# Altium schematic symbol library SchLib_ols.SCHLIB: 87 symbols (part 1 of 2)
Pins are listed as number, name and electrical type; pins without a type are passive.

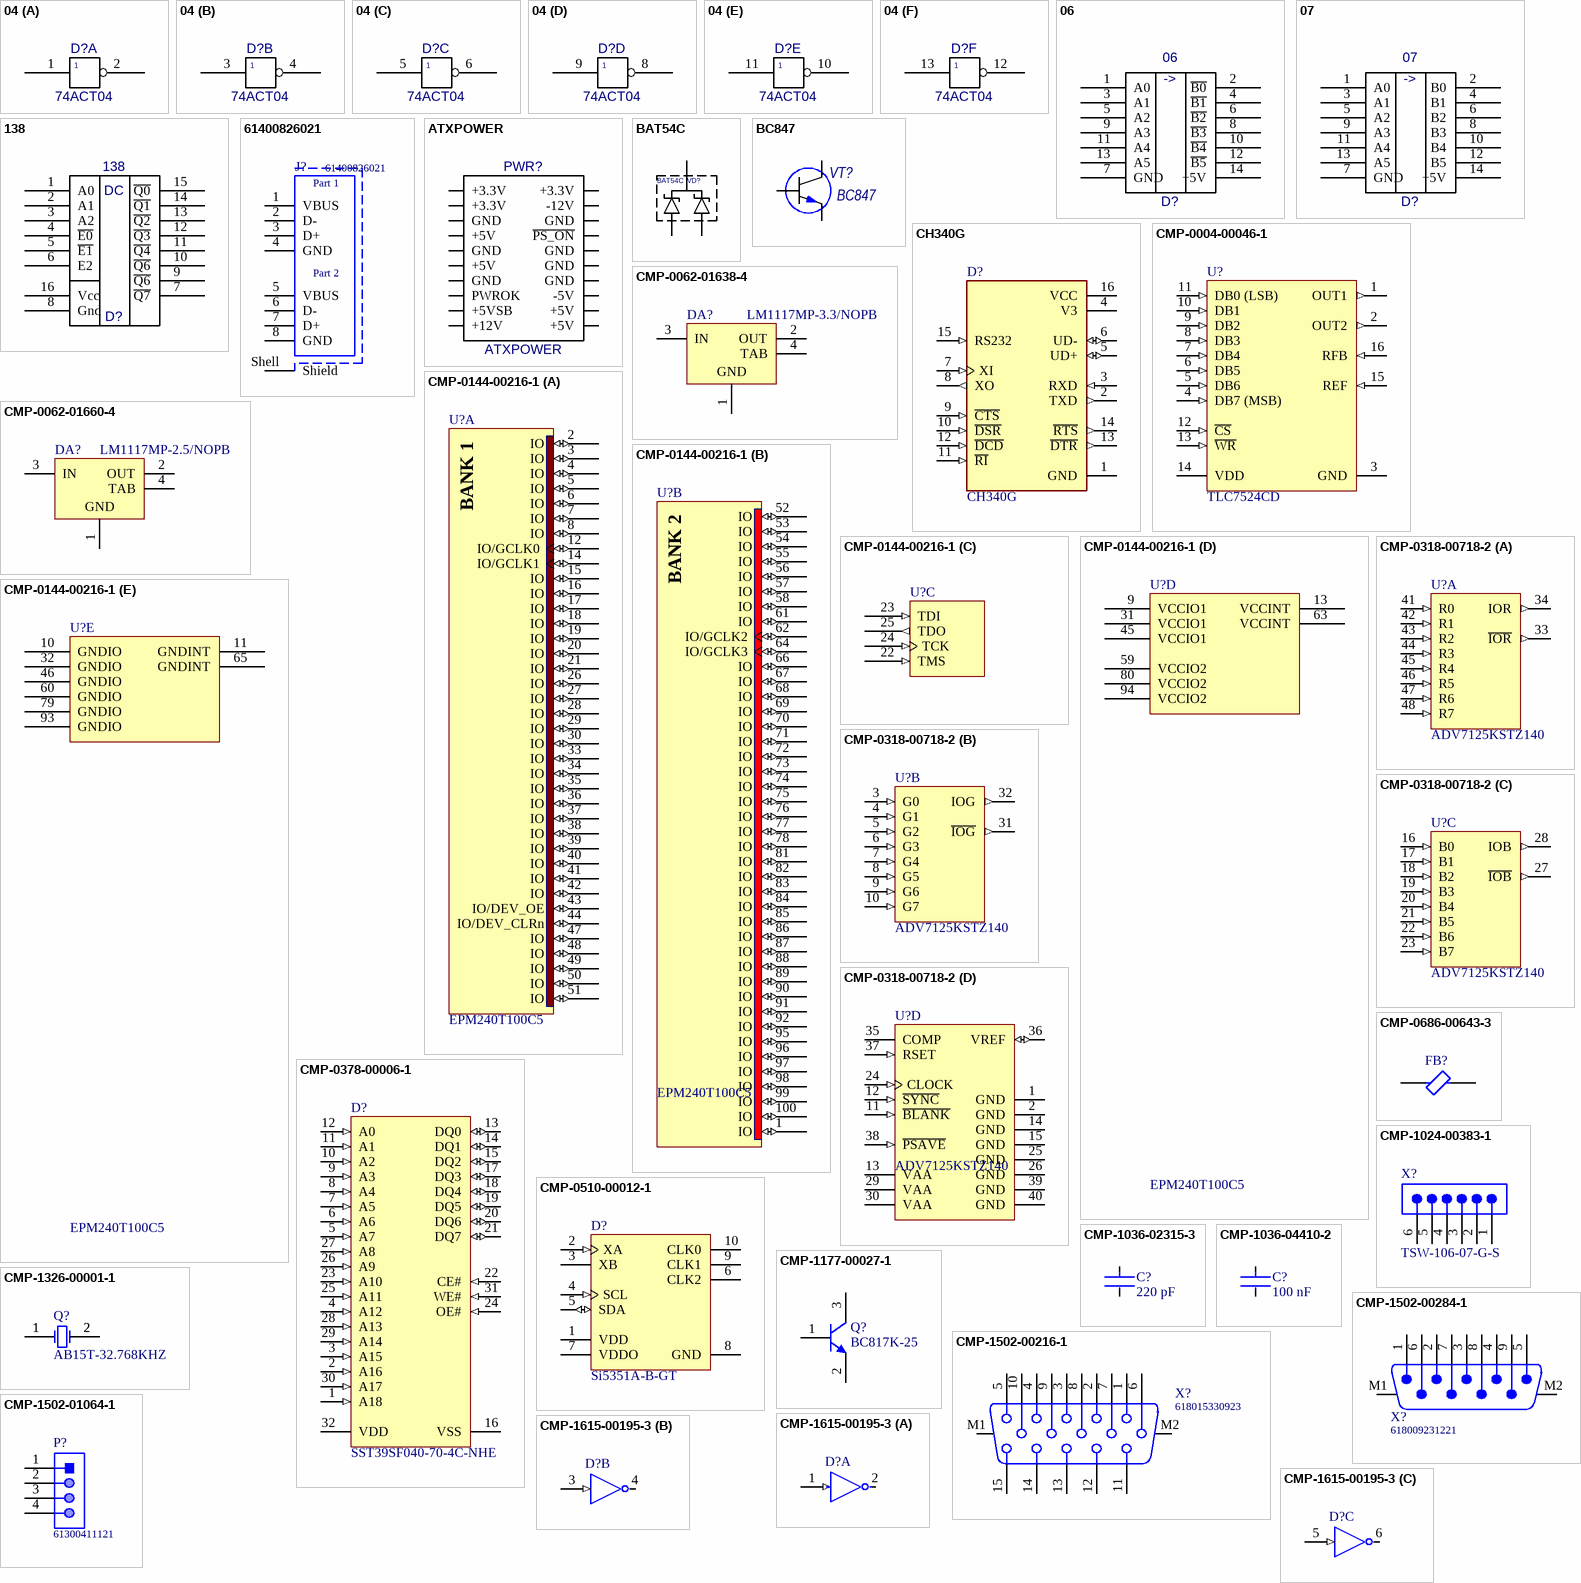
[diagram p0: symbols 04 to CMP-1615-00195-3]

## 04
designator D?  value 74ACT04  (hidden comment: 04)
Case/Package: SOIC-14; Category: IC
footprint SO14
pins on every part: 7 GND (power) hidden to GND, 14 +5v (power) hidden to VCC5
part A pins: 1, 2
part B pins: 3, 4
part C pins: 5, 6
part D pins: 8, 9
part E pins: 10, 11
part F pins: 12, 13

## 06
designator D?
Value: 74HCT06; Case/Package: SOIC-14; Category: IC
footprint SO14
pins: 1 A0, 2 ~{B0}, 3 A1, 4 ~{B1}, 5 A2, 6 ~{B2}, 7 GND, 8 ~{B3}, 9 A3, 10 ~{B4}, 11 A4, 12 ~{B5}, 13 A5, 14 +5V
text: ->

## 07
designator D?
Value: 74HCT07; Case/Package: SOIC-14; Category: IC
footprint SO14
pins: 1 A0, 2 B0, 3 A1, 4 B1, 5 A2, 6 B2, 7 GND, 8 B3, 9 A3, 10 B4, 11 A4, 12 B5, 13 A5, 14 +5V
text: ->

## 138
designator D?
value: 74HCT138; Case/Package: SOIC-16; Category: IC
footprint SO16
pins: 1 A0, 2 A1, 3 A2, 4 ~{E0}, 5 ~{E1}, 6 E2, 7 ~{Q7}, 8 Gnd, 9 ~{Q6}, 10 ~{Q6}, 11 ~{Q4}, 12 ~{Q3}, 13 ~{Q2}, 14 ~{Q1}, 15 ~{Q0}, 16 Vcc
text: DC

## 61400826021
designator J?
USB 2.0 Type A Receptacle WR-COM, Stacked Horizontal, THT; Manufacturer: Wurth Elektronik; Contact Resistance: 20mOhm; Rated Current: 1.5A; Working Voltage: 30VAC; Connector Type: USB2.0TypeA; Packaging: Tray; Package Reference: 61400826021; Mounting Technology: THT; Datasheet URL: https://katalog.we-online.de/em/datasheet/61400826021.pdf; Operating Temperature: -40to105degC; Gender: Receptacle; Orientation: StackedHorizontal; Part Number: 61400826021; Publisher: WurthElektronik; Manufacturer URL: http://www.we-online.de
footprint 61400826021 (USB 2.0 Type A Horizontal Dual Stacked)
pins: 1 VBUS, 2 D-, 3 D+, 4 GND, 5 VBUS, 6 D-, 7 D+, 8 GND, Shell Shield
text: Part 1; Part 2

## ATXPOWER
designator PWR?
Analogs: MF-20MA;N42GP-20; Value: ATXPOWER; Case/Package: Mini-Fit 20 PIN 5.2; Category: Connector
footprint ATXPOWER
pins: 1 +3.3V, 2 +3.3V, 3 GND, 4 +5V, 5 GND, 6 +5V, 7 GND, 8 PWROK, 9 +5VSB, 10 +12V, 11 +3.3V, 12 -12V, 13 GND, 14 ~{PS_ON}, 15 GND, 16 GND, 17 GND, 18 -5V, 19 +5V, 20 +5V

## BAT54C
designator VD?
Value: BAT54C; Case/Package: SOT-23; Category: Diode
footprint SOT-23
pins: 1, 2, 3

## BC847
designator VT?
Value: BC847; Case/Package: SOT-23; Category: Transistor
footprint SOT-23
pins: 1 base, 2 emitter, 3 collector

## CH340G
designator D?
USB Interface Integrated Circuit; Value: CH340G; Case/Package: SOIC-16; Category: IC
footprint SOIC127P600X180-16N
pins: 1 GND (power), 2 TXD (out), 3 RXD (in), 4 V3 (power), 5 UD+ (io), 6 UD- (io), 7 XI (in), 8 XO (out), 9 ~{CTS} (in), 10 ~{DSR} (in), 11 ~{RI} (in), 12 ~{DCD} (in), 13 ~{DTR} (out), 14 ~{RTS} (out), 15 RS232 (in), 16 VCC (power)

## CMP-0004-00046-1
designator U?, comment TLC7524CD
8-Bit, 0.1 us MDAC, Parallel Input, Fast Control Signalling for DSP, Easy Micro Interface, 0 to 70 degC, 16-pin SOIC (D16), Green (RoHS & no Sb/Br); Manufacturer: Texas Instruments; PackageDescription: 16-Pin Plastic Small Outline, Body 9.9 x 3.9 mm, Pitch 1.27 mm; PartNumber: TLC7524CD; Manufacturer Part Number: TLC7524CD; value: TLC7524CD; Case/Package: SOIC-16; Category: IC
footprint TI-D16_N (SOIC, 16-Leads, Body 9.9x3.9mm, Pitch 1.27mm, IPC Medium Density)
footprint TI-D16_L (SOIC, 16-Leads, Body 9.9x3.9mm, Pitch 1.27mm, IPC High Density)
footprint TI-D16_M (SOIC, 16-Leads, Body 9.9x3.9mm, Pitch 1.27mm, IPC Low Density)
pins: 1 OUT1 (out), 2 OUT2 (out), 3 GND (power), 4 DB7 (MSB) (in), 5 DB6 (in), 6 DB5 (in), 7 DB4 (in), 8 DB3 (in), 9 DB2 (in), 10 DB1 (in), 11 DB0 (LSB) (in), 12 ~{CS} (in), 13 ~{WR} (in), 14 VDD (power), 15 REF (in), 16 RFB (in)

## CMP-0062-01638-4
designator DA?, comment LM1117MP-3.3/NOPB
800mA Low-Dropout Linear Regulator, 4-pin SOT-223, Pb-Free; Manufacturer: TI National Semiconductor; PackageDescription: Molded SOT-223, 6.50 x 3.56 x 1.6mm Body, 4 Lead, 2.3mm Pitch; PartNumber: LM1117MP-3.3/NOPB; Manufacturer Part Number: LM1117MP-3.3/NOPB; value: LM1117MP-3.3/NOPB; Case/Package: SOT-223; Category: IC
footprint DCY0004A_L (SOT223, 4-Leads, Body 6.7x3.7mm, Pitch 2.3mm, IPC High Density)
footprint DCY0004A_M (SOT223, 4-Leads, Body 6.7x3.7mm, Pitch 2.3mm, IPC Low Density)
footprint DCY0004A_N (SOT223, 4-Leads, Body 6.7x3.7mm, Pitch 2.3mm, IPC Medium Density)
pins: 1 GND (power), 2 OUT (power), 3 IN (power), 4 TAB (power)

## CMP-0062-01660-4
designator DA?, comment LM1117MP-2.5/NOPB
800mA Low-Dropout Linear Regulator, 4-pin SOT-223, Pb-Free; Manufacturer: TI National Semiconductor; PartNumber: LM1117MP-2.5/NOPB; PackageDescription: Molded SOT-223, 6.50 x 3.56 x 1.6mm Body, 4 Lead, 2.3mm Pitch; Manufacturer Part Number: LM1117MP-2.5/NOPB; value: LM1117MP-2.5/NOPB; Case/Package: SOT-223; Category: IC
footprint DCY0004A_M (SOT223, 4-Leads, Body 6.7x3.7mm, Pitch 2.3mm, IPC Low Density)
footprint DCY0004A_N (SOT223, 4-Leads, Body 6.7x3.7mm, Pitch 2.3mm, IPC Medium Density)
footprint DCY0004A_L (SOT223, 4-Leads, Body 6.7x3.7mm, Pitch 2.3mm, IPC High Density)
pins: 1 GND (power), 2 OUT (power), 3 IN (power), 4 TAB (power)

## CMP-0144-00216-1
designator U?, comment EPM240T100C5
MAX II 3.3/2.5V CPLD, 80 IOs, 240 Logic Elements, 100-Pin Plastic TQFP, Commercial Temperature, Speed Grade 5; Manufacturer: Intel Altera; PackageDescription: 100-Pin Plastic Thin Quad Flat Pack (TQFP100) - Wire Bond; Manufacturer Part Number: EPM240T100C5; value: EPM240T100C5; Case/Package: TQFP-100; Category: IC
footprint TQFP100_M (Thin QFP, 100-Leads, Body 14x14mm, Pitch 0.5mm, IPC Low Density)
footprint TQFP100_L (Thin QFP, 100-Leads, Body 14x14mm, Pitch 0.5mm, IPC High Density)
footprint TQFP100_N (Thin QFP, 100-Leads, Body 14x14mm, Pitch 0.5mm, IPC Medium Density)
part A pins: 2 IO (io), 3 IO (io), 4 IO (io), 5 IO (io), 6 IO (io), 7 IO (io), 8 IO (io), 12 IO/GCLK0 (io), 14 IO/GCLK1 (io), 15 IO (io), 16 IO (io), 17 IO (io), 18 IO (io), 19 IO (io), 20 IO (io), 21 IO (io), 26 IO (io), 27 IO (io), 28 IO (io), 29 IO (io), 30 IO (io), 33 IO (io), 34 IO (io), 35 IO (io), 36 IO (io), 37 IO (io), 38 IO (io), 39 IO (io), 40 IO (io), 41 IO (io), 42 IO (io), 43 IO/DEV_OE (io), 44 IO/DEV_CLRn (io), 47 IO (io), 48 IO (io), 49 IO (io), 50 IO (io), 51 IO (io)
part B pins: 1 IO (io), 52 IO (io), 53 IO (io), 54 IO (io), 55 IO (io), 56 IO (io), 57 IO (io), 58 IO (io), 61 IO (io), 62 IO/GCLK2 (io), 64 IO/GCLK3 (io), 66 IO (io), 67 IO (io), 68 IO (io), 69 IO (io), 70 IO (io), 71 IO (io), 72 IO (io), 73 IO (io), 74 IO (io), 75 IO (io), 76 IO (io), 77 IO (io), 78 IO (io), 81 IO (io), 82 IO (io), 83 IO (io), 84 IO (io), 85 IO (io), 86 IO (io), 87 IO (io), 88 IO (io), 89 IO (io), 90 IO (io), 91 IO (io), 92 IO (io), 95 IO (io), 96 IO (io), 97 IO (io), 98 IO (io), 99 IO (io), 100 IO (io)
part C pins: 22 TMS (in), 23 TDI (in), 24 TCK (in), 25 TDO (out)
part D pins: 9 VCCIO1 (power), 13 VCCINT (power), 31 VCCIO1 (power), 45 VCCIO1 (power), 59 VCCIO2 (power), 63 VCCINT (power), 80 VCCIO2 (power), 94 VCCIO2 (power)
part E pins: 10 GNDIO (power), 11 GNDINT (power), 32 GNDIO (power), 46 GNDIO (power), 60 GNDIO (power), 65 GNDINT (power), 79 GNDIO (power), 93 GNDIO (power)
part A text: BANK 1
part B text: BANK 2

## CMP-0318-00718-2
designator U?, comment ADV7125KSTZ140
3 Channel 8-Bit CMOS High Speed Video Digital-to-Analog Converter, -40 to +85 degC, ST-48, Pb-Free, Tray; Manufacturer: Analog Devices; PackageDescription: 48-Pin Thin Quad Flat Pack 0.5 mm Pitch; PartNumber: ADV7125KSTZ140; Manufacturer Part Number: ADV7125KSTZ140; value: ADV7125KSTZ140; Case/Package: TQFP-48; Category: IC
footprint ST-48_N (Thin QFP, 48-Leads, Body 7x7mm, Pitch 0.5mm, IPC Medium Density)
footprint ST-48_L (Thin QFP, 48-Leads, Body 7x7mm, Pitch 0.5mm, IPC High Density)
footprint ST-48_M (Thin QFP, 48-Leads, Body 7x7mm, Pitch 0.5mm, IPC Low Density)
part A pins: 33 ~{IOR} (out) "Differential Red, Green, and Blue Current Outputs (High Impedance Current Sources). These RGB video outputs are specified to directly drive RS-343A and RS-170 video levels into a doubly terminated 75 ohm load. If the (See Datasheet)", 34 IOR (out) "Red, Green, and Blue Current Outputs. These high impedance current sources are capable of directly driving a doubly terminated 75 ohm coaxial cable. All three current outputs should have similar output loads whether or not (See Datasheet)", 41 R0 (in) "Red Pixel Data Inputs (TTL Compatible). Pixel data is latched on the rising edge of CLOCK. R0, G0, and B0 are the least significant data bits. Unused pixel data inputs should be connected to either the regular printed (See Datasheet)", 42 R1 (in) "Red Pixel Data Inputs (TTL Compatible). Pixel data is latched on the rising edge of CLOCK. R0, G0, and B0 are the least significant data bits. Unused pixel data inputs should be connected to either the regular printed (See Datasheet)", 43 R2 (in) "Red Pixel Data Inputs (TTL Compatible). Pixel data is latched on the rising edge of CLOCK. R0, G0, and B0 are the least significant data bits. Unused pixel data inputs should be connected to either the regular printed (See Datasheet)", 44 R3 (in) "Red Pixel Data Inputs (TTL Compatible). Pixel data is latched on the rising edge of CLOCK. R0, G0, and B0 are the least significant data bits. Unused pixel data inputs should be connected to either the regular printed (See Datasheet)", 45 R4 (in) "Red Pixel Data Inputs (TTL Compatible). Pixel data is latched on the rising edge of CLOCK. R0, G0, and B0 are the least significant data bits. Unused pixel data inputs should be connected to either the regular printed (See Datasheet)", 46 R5 (in) "Red Pixel Data Inputs (TTL Compatible). Pixel data is latched on the rising edge of CLOCK. R0, G0, and B0 are the least significant data bits. Unused pixel data inputs should be connected to either the regular printed (See Datasheet)", 47 R6 (in) "Red Pixel Data Inputs (TTL Compatible). Pixel data is latched on the rising edge of CLOCK. R0, G0, and B0 are the least significant data bits. Unused pixel data inputs should be connected to either the regular printed (See Datasheet)", 48 R7 (in) "Red Pixel Data Inputs (TTL Compatible). Pixel data is latched on the rising edge of CLOCK. R0, G0, and B0 are the least significant data bits. Unused pixel data inputs should be connected to either the regular printed (See Datasheet)"
part B pins: 3 G0 (in) "Green Pixel Data Inputs (TTL Compatible). Pixel data is latched on the rising edge of CLOCK. R0, G0, and B0 are the least significant data bits. Unused pixel data inputs should be connected to either the regular printed (See Datasheet)", 4 G1 (in) "Green Pixel Data Inputs (TTL Compatible). Pixel data is latched on the rising edge of CLOCK. R0, G0, and B0 are the least significant data bits. Unused pixel data inputs should be connected to either the regular printed (See Datasheet)", 5 G2 (in) "Green Pixel Data Inputs (TTL Compatible). Pixel data is latched on the rising edge of CLOCK. R0, G0, and B0 are the least significant data bits. Unused pixel data inputs should be connected to either the regular printed (See Datasheet)", 6 G3 (in) "Green Pixel Data Inputs (TTL Compatible). Pixel data is latched on the rising edge of CLOCK. R0, G0, and B0 are the least significant data bits. Unused pixel data inputs should be connected to either the regular printed (See Datasheet)", 7 G4 (in) "Green Pixel Data Inputs (TTL Compatible). Pixel data is latched on the rising edge of CLOCK. R0, G0, and B0 are the least significant data bits. Unused pixel data inputs should be connected to either the regular printed (See Datasheet)", 8 G5 (in) "Green Pixel Data Inputs (TTL Compatible). Pixel data is latched on the rising edge of CLOCK. R0, G0, and B0 are the least significant data bits. Unused pixel data inputs should be connected to either the regular printed (See Datasheet)", 9 G6 (in) "Green Pixel Data Inputs (TTL Compatible). Pixel data is latched on the rising edge of CLOCK. R0, G0, and B0 are the least significant data bits. Unused pixel data inputs should be connected to either the regular printed (See Datasheet)", 10 G7 (in) "Green Pixel Data Inputs (TTL Compatible). Pixel data is latched on the rising edge of CLOCK. R0, G0, and B0 are the least significant data bits. Unused pixel data inputs should be connected to either the regular printed (See Datasheet)", 31 ~{IOG} (out) "Differential Red, Green, and Blue Current Outputs (High Impedance Current Sources). These RGB video outputs are specified to directly drive RS-343A and RS-170 video levels into a doubly terminated 75 ohm load. If the (See Datasheet)", 32 IOG (out) "Red, Green, and Blue Current Outputs. These high impedance current sources are capable of directly driving a doubly terminated 75 ohm coaxial cable. All three current outputs should have similar output loads whether or not (See Datasheet)"
part C pins: 16 B0 (in) "Blue Pixel Data Inputs (TTL Compatible). Pixel data is latched on the rising edge of CLOCK. R0, G0, and B0 are the least significant data bits. Unused pixel data inputs should be connected to either the regular printed (See Datasheet)", 17 B1 (in) "Blue Pixel Data Inputs (TTL Compatible). Pixel data is latched on the rising edge of CLOCK. R0, G0, and B0 are the least significant data bits. Unused pixel data inputs should be connected to either the regular printed (See Datasheet)", 18 B2 (in) "Blue Pixel Data Inputs (TTL Compatible). Pixel data is latched on the rising edge of CLOCK. R0, G0, and B0 are the least significant data bits. Unused pixel data inputs should be connected to either the regular printed (See Datasheet)", 19 B3 (in) "Blue Pixel Data Inputs (TTL Compatible). Pixel data is latched on the rising edge of CLOCK. R0, G0, and B0 are the least significant data bits. Unused pixel data inputs should be connected to either the regular printed (See Datasheet)", 20 B4 (in) "Blue Pixel Data Inputs (TTL Compatible). Pixel data is latched on the rising edge of CLOCK. R0, G0, and B0 are the least significant data bits. Unused pixel data inputs should be connected to either the regular printed (See Datasheet)", 21 B5 (in) "Blue Pixel Data Inputs (TTL Compatible). Pixel data is latched on the rising edge of CLOCK. R0, G0, and B0 are the least significant data bits. Unused pixel data inputs should be connected to either the regular printed (See Datasheet)", 22 B6 (in) "Blue Pixel Data Inputs (TTL Compatible). Pixel data is latched on the rising edge of CLOCK. R0, G0, and B0 are the least significant data bits. Unused pixel data inputs should be connected to either the regular printed (See Datasheet)", 23 B7 (in) "Blue Pixel Data Inputs (TTL Compatible). Pixel data is latched on the rising edge of CLOCK. R0, G0, and B0 are the least significant data bits. Unused pixel data inputs should be connected to either the regular printed (See Datasheet)", 27 ~{IOB} (out) "Differential Red, Green, and Blue Current Outputs (High Impedance Current Sources). These RGB video outputs are specified to directly drive RS-343A and RS-170 video levels into a doubly terminated 75 ohm load. If the (See Datasheet)", 28 IOB (out) "Red, Green, and Blue Current Outputs. These high impedance current sources are capable of directly driving a doubly terminated 75 ohm coaxial cable. All three current outputs should have similar output loads whether or not (See Datasheet)"
part D pins: 1 GND (power) "Ground. All GND pins must be connected.", 2 GND (power) "Ground. All GND pins must be connected.", 11 ~{BLANK} (in) "Composite Blank Control Input (TTL Compatible). A Logic 0 on this control input drives the analog outputs, IOR, IOB, and IOG, to the blanking level. The B\L\A\N\K\ signal is latched on the rising edge of CLOCK. While (See Datasheet)", 12 ~{SYNC} (in) "Composite Sync Control Input (TTL Compatible). A Logic 0 on the S\Y\N\C\ input switches off a 40 IRE current source. This is internally connected to the IOG analog output. S\Y\N\C\ does not override any other control or data (See Datasheet)", 13 VAA (power) "Analog Power Supply (5 V +/- 5%). All VAA pins on the ADV7125 must be connected.", 14 GND (power) "Ground. All GND pins must be connected.", 15 GND (power) "Ground. All GND pins must be connected.", 24 CLOCK (in) "Clock Input (TTL Compatible). The rising edge of CLOCK latches the R0 to R7, G0 to G7, B0 to B7, S\Y\N\C\, and B\L\A\N\K\ pixel and control inputs. It is typically the pixel clock rate of the video system. CLOCK should be (See Datasheet)", 25 GND (power) "Ground. All GND pins must be connected.", 26 GND (power) "Ground. All GND pins must be connected.", 29 VAA (power) "Analog Power Supply (5 V +/- 5%). All VAA pins on the ADV7125 must be connected.", 30 VAA (power) "Analog Power Supply (5 V +/- 5%). All VAA pins on the ADV7125 must be connected.", 35 COMP "Compensation Pin. This is a compensation pin for the internal reference amplifier. A 0.1 uF ceramic capacitor must be connected between COMP and VAA.", 36 VREF (io) "Voltage Reference Input for DACs or Voltage Reference Output (1.235 V).", 37 RSET (in) "A resistor (RSET) connected between this pin and GND controls the magnitude of the full-scale video signal. Note that the IRE relationships are maintained, regardless of the full-scale output current. The relationship (See Datasheet)", 38 ~{PSAVE} (in) "Power Save Control Pin. Reduced power consumption is available on the ADV7125 when this pin is active.", 39 GND (power) "Ground. All GND pins must be connected.", 40 GND (power) "Ground. All GND pins must be connected."

## CMP-0378-00006-1
designator D?, comment SST39SF040-70-4C-NHE
4 Mbit Multi-Purpose Flash, 4.5 to 5.5 V, 1 kHz, 0 to 70 degC, 32-pin PLCC (NH32), Tube; Manufacturer: Microchip; PartNumber: SST39SF040-70-4C-NHE; PackageDescription: 32-lead Plastic Lead Chip Carrier, 11.43 x 13.97 mm Body, 1.27 mm Pitch; Manufacturer Part Number: SST39SF040-70-4C-NHE; value: SST39SF040-70-4C-NHE; Case/Package: PLCC-32; Category: IC
footprint MCHP-PLCC-NH32_L (PLCC, 32-Leads, Body 13.97x11.43mm, Pitch 1.27mm, IPC High Density)
footprint MCHP-PLCC-NH32_N (PLCC, 32-Leads, Body 13.97x11.43mm, Pitch 1.27mm, IPC Medium Density)
footprint MCHP-PLCC-NH32_M (PLCC, 32-Leads, Body 13.97x11.43mm, Pitch 1.27mm, IPC Low Density)
pins: 1 A18 (in) "To provide memory addresses. During Sector-Erase AMS-A12 address lines will select the sector.", 2 A16 (in) "To provide memory addresses. During Sector-Erase AMS-A12 address lines will select the sector.", 3 A15 (in) "To provide memory addresses. During Sector-Erase AMS-A12 address lines will select the sector.", 4 A12 (in) "To provide memory addresses. During Sector-Erase AMS-A12 address lines will select the sector.", 5 A7 (in) "To provide memory addresses. During Sector-Erase AMS-A12 address lines will select the sector.", 6 A6 (in) "To provide memory addresses. During Sector-Erase AMS-A12 address lines will select the sector.", 7 A5 (in) "To provide memory addresses. During Sector-Erase AMS-A12 address lines will select the sector.", 8 A4 (in) "To provide memory addresses. During Sector-Erase AMS-A12 address lines will select the sector.", 9 A3 (in) "To provide memory addresses. During Sector-Erase AMS-A12 address lines will select the sector.", 10 A2 (in) "To provide memory addresses. During Sector-Erase AMS-A12 address lines will select the sector.", 11 A1 (in) "To provide memory addresses. During Sector-Erase AMS-A12 address lines will select the sector.", 12 A0 (in) "To provide memory addresses. During Sector-Erase AMS-A12 address lines will select the sector.", 13 DQ0 (io) "To output data during Read cycles and receive input data during Write cycles. Data is internally latched during a Write cycle. The outputs are in tri-state when OE# or CE# is high.", 14 DQ1 (io) "To output data during Read cycles and receive input data during Write cycles. Data is internally latched during a Write cycle. The outputs are in tri-state when OE# or CE# is high.", 15 DQ2 (io) "To output data during Read cycles and receive input data during Write cycles. Data is internally latched during a Write cycle. The outputs are in tri-state when OE# or CE# is high.", 16 VSS (power) "Ground", 17 DQ3 (io) "To output data during Read cycles and receive input data during Write cycles. Data is internally latched during a Write cycle. The outputs are in tri-state when OE# or CE# is high.", 18 DQ4 (io) "To output data during Read cycles and receive input data during Write cycles. Data is internally latched during a Write cycle. The outputs are in tri-state when OE# or CE# is high.", 19 DQ5 (io) "To output data during Read cycles and receive input data during Write cycles. Data is internally latched during a Write cycle. The outputs are in tri-state when OE# or CE# is high.", 20 DQ6 (io) "To output data during Read cycles and receive input data during Write cycles. Data is internally latched during a Write cycle. The outputs are in tri-state when OE# or CE# is high.", 21 DQ7 (io) "To output data during Read cycles and receive input data during Write cycles. Data is internally latched during a Write cycle. The outputs are in tri-state when OE# or CE# is high.", 22 CE# (in) "To activate the device when CE# is low.", 23 A10 (in) "To provide memory addresses. During Sector-Erase AMS-A12 address lines will select the sector.", 24 OE# (in) "To gate the data output buffers.", 25 A11 (in) "To provide memory addresses. During Sector-Erase AMS-A12 address lines will select the sector.", 26 A9 (in) "To provide memory addresses. During Sector-Erase AMS-A12 address lines will select the sector.", 27 A8 (in) "To provide memory addresses. During Sector-Erase AMS-A12 address lines will select the sector.", 28 A13 (in) "To provide memory addresses. During Sector-Erase AMS-A12 address lines will select the sector.", 29 A14 (in) "To provide memory addresses. During Sector-Erase AMS-A12 address lines will select the sector.", 30 A17 (in) "To provide memory addresses. During Sector-Erase AMS-A12 address lines will select the sector.", 31 WE# (in) "To control the Write operations.", 32 VDD (power) "To provide 5.0V supply (4.5-5.5V)"

## CMP-0510-00012-1
designator D?, comment Si5351A-B-GT
I2C-Programmable Any-Frequency CMOS Clock Generator + VCXO, 2.5 / 3.3 V, 0.008 to 160 MHz Output, -40 to 85 degC, 10-pin SOP; Manufacturer: Silicon Labs; PackageDescription: 10-Pin Mini Small Outline Package, Body 3 x 3 mm, Pitch 0.5 mm; PartNumber: Si5351A-B-GT; Manufacturer Part Number: SI5351A-B-GT; value: SI5351A-B-GT; Case/Package: MSOP-10; Category: IC
footprint SLAB-MSOP-10_N (SOP, 10-Leads, Body 3x3mm, Pitch 0.5mm, IPC Medium Density)
footprint SLAB-MSOP-10_L (SOP, 10-Leads, Body 3x3mm, Pitch 0.5mm, IPC High Density)
footprint SLAB-MSOP-10_M (SOP, 10-Leads, Body 3x3mm, Pitch 0.5mm, IPC Low Density)
pins: 1 VDD (power) "Core voltage supply pin.", 2 XA (in) "Input pin for external crystal.", 3 XB "Input pin for external crystal.", 4 SCL (in) "Serial clock input for the I2C bus. This pin must be pulled-up using a pull-up resistor of at least 1 k ohm.", 5 SDA (io) "Serial data input for the I2C bus. This pin must be pulled-up using a pull-up resistor of at least 1 k ohm.", 6 CLK2 (hiz) "Output clock 2.", 7 VDDO (power) "Output voltage supply pin for CLK0, CLK1, and CLK2.", 8 GND (power) "Ground.", 9 CLK1 (hiz) "Output clock 1.", 10 CLK0 (hiz) "Output clock 0."

## CMP-0686-00643-3
designator FB?, comment BLM21AG601SN1J  (value not drawn)
Chip Ferrite Bead, 0805, 600Ω @ 100MHz, 0.2Ω, 25%, 700mA; Manufacturer: Murata; Number of Pins: 2; Case/Package: 0805; Termination: Flat; Manufacturer Part Number: BLM21AG601SN1J; value: BLM21AG601SN1J; Category: Inductor
footprint FP-BLM21-0_2-t0_85-e0_5-IPC_A
footprint FP-BLM21-0_2-t0_85-e0_5-IPC_C
footprint FP-BLM21-0_2-t0_85-e0_5-MFG
footprint FP-BLM21-0_2-t0_85-e0_5-IPC_B
pins: 1, 1, 2, 2

## CMP-1024-00383-1
designator X?, comment TSW-106-07-G-S
0.025" SQ Post Header, Through-hole, Vertical, -55 to 125 degC, 2.54 mm Pitch, 6-Pin, Male, RoHS; Manufacturer: Samtec; Pitch: 2.54 mm; value: 6 pin header 2.54mm; PackageDescription: .025[0.64] SQ. Post Terminal Strip Assembly; PartNumber: TSW-106-07-G-S; Manufacturer Part Number: TSW-106-07-G-S; Case/Package: PLS-6; Category: Connector
footprint SMTC-TSW-106-07-X-S (.025 SQ Post Terminal Strip Assembly, 1x6 Pins, Vertical, 2.54mm Pitch, Male)
pins: 1, 2, 3, 4, 5, 6

## CMP-1036-02315-3
designator C?, comment Capacitance: 220 pF  (hidden comment: CC0805KRX7R9BB221)
CAP CER 220PF 50V X7R 0805; Manufacturer Part Number: VJ0805A221KXAPW1BC; Manufacturer: Vishay Vitramon; Value: 220 pF; Category: Cap; Case/Package: 0805
footprint FP-CC0805-0_85-MFG
footprint FP-CC0805-0_85-IPC_C
footprint FP-CC0805-0_85-IPC_B
footprint FP-CC0805-0_85-IPC_A
pins: 1, 2

## CMP-1036-04410-2
designator C?, comment Capacitance: 100 nF  (hidden comment: CC0805KRX7R8BB104)
CAP CER 0.1UF 25V X7R 0805; Manufacturer Part Number: 08053C104KAT4A; Manufacturer: Kyocera AVX; Value: 100 nF; Category: Cap; Case/Package: 0805
footprint FP-CC0805-0_85-MFG
footprint FP-CC0805-0_85-IPC_C
footprint FP-CC0805-0_85-IPC_B
footprint FP-CC0805-0_85-IPC_A
pins: 1, 2

## CMP-1177-00027-1
designator Q?, comment BC817K-25
NPN Silicon AF Transistor, 45 V VCEO, 500 mA IC, SOT23, Reel, Green; Manufacturer: Infineon; PackageDescription: 3-Pin Small Outline Transistor Package, 1.3 x 2.9 mm Body, 0.95 mm Pitch; PartNumber: BC817K-25; Manufacturer Part Number: BC817K-25; value: BC817K-25; Case/Package: SOT-23; Category: Transistor
footprint INF-SOT23_N (SOT23, 3-Leads, Body 2.9x1.3 mm, Pitch 0.95 mm, IPC Medium Density)
footprint INF-SOT23_L (SOT23, 3-Leads, Body 2.9x1.3 mm, Pitch 0.95 mm, IPC High Density)
footprint INF-SOT23_M (SOT23, 3-Leads, Body 2.9x1.3 mm, Pitch 0.95 mm, IPC Low Density)
pins: 1 B, 2 E, 3 C

## CMP-1326-00001-1
designator Q?, comment AB15T-32.768KHZ
Low Frequency Cylindrical Watch Crystal, 32.768 kHz, -20 to 70 degC, 2-Pin 5 x 1.4 x 1.5 mm THD, RoHS, Bulk; Manufacturer: Abracon; PackageDescription: 2-Pin THD, Body 5 x 1.4 mm, Pin Spacing 0.45 mm; PartNumber: AB15T-32.768KHZ; Manufacturer Part Number: AB15T-32.768KHZ; value: AB15T-32.768KHZ; Category: CrystalsandOscillators
footprint ABRA-AB15T-2_V (THD, 2-Leads, Body 5.1x1.5mm, Height 1.5mm)
pins: 1 X1, 1 X1, 2 X2, 2 X2

## CMP-1502-00216-1
designator X?, comment 618015330923
Female High Density PCB Connector with Hex Screw WR-DSUB, Angled, 15 pins; Manufacturer: Wurth Electronics; Manufacturer Part Number: 618015330923; value: DSUB, Angled, 15 pins; Case/Package: DSUB-15; Category: Connector
footprint 618015330923 (15 pins, right angled)
pins: 1, 2, 3, 4, 5, 6, 7, 8, 9, 10, 11, 12, 13, 14, 15, M1, M2

## CMP-1502-00284-1
designator X?, comment 618009231221
Male PCB Connector with Hex Screw WR-DSUB, 8.08 mm, Angled, 9 pins; Manufacturer: Wurth Electronics; value: DSUB, Angled, 9 pins; Manufacturer Part Number: 618009231221; Case/Package: DSUB-9; Category: Connector
footprint 618009231221 (9 pins, right angled, 8.08mm, with hex screw)
pins: 1, 2, 3, 4, 5, 6, 7, 8, 9, M1, M2

## CMP-1502-01064-1
designator P?, comment 61300411121
THT Vertical Pin Header WR-PHD, Pitch 2.54 mm, Single Row, 4 pins; Manufacturer: Wurth Electronics; Pitch: 2.54mm; value: header 4 pin 2.54mm; Manufacturer Part Number: 61300411121; Case/Package: PLS-4; Category: Connector
footprint 61300411121 (Pin Header, pitch 2.54 mm, THT, Vertical, single row, 4p)
pins: 1, 2, 3, 4

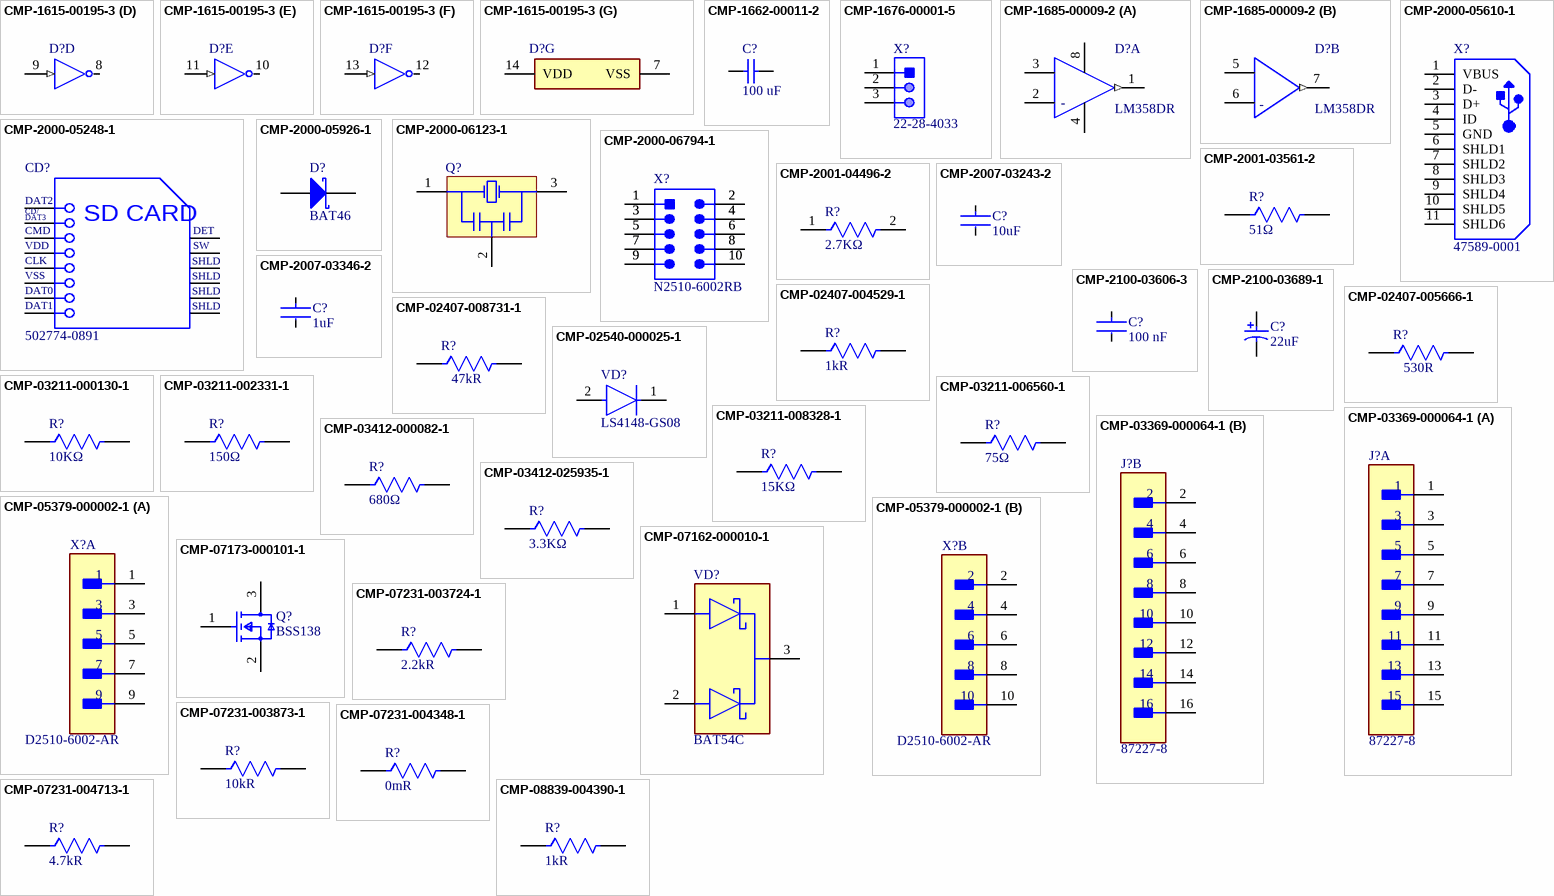
[diagram p1: symbols CMP-1615-00195-3 to CMP-08839-004390-1]

## CMP-1615-00195-3
designator D?, comment CD4069UBM  (value not drawn)
IC INVERTER 6CH 6-INP 14SOIC; Manufacturer: Texas Instruments; Number of Pins: 14; Case/Package: SOIC; Manufacturer Part Number: CD4069UBM; value: CD4069UBM; Category: IC
footprint FP-D0014A-MFG
footprint FP-D0014A-IPC_B
footprint FP-D0014A-IPC_A
footprint FP-D0014A-IPC_C
part A pins: 1 A (in), 2 ~{A} (out)
part B pins: 3 B (in), 4 ~{B} (out)
part C pins: 5 C (in), 6 ~{C} (out)
part D pins: 8 ~{D} (out), 9 D (in)
part E pins: 10 ~{E} (out), 11 E (in)
part F pins: 12 ~{F} (out), 13 F (in)
part G pins: 7 VSS (power), 14 VDD (power)

## CMP-1662-00011-2
designator C?, comment Capacitance: 100 uF  (hidden comment: GRM31CR60J107ME39L)
Chip Capacitor, 100 uF, +/- 20%, 6.3 V, -55 to 85 degC, 1206 (3216 Metric), RoHS, Tape and Reel; Manufacturer: Murata; value: 100 uF; PackageDescription: 2-Pin Surface Mount Device, Body 3.2 x 1.6 mm; PartNumber: GRM31CR60J107ME39L; Manufacturer Part Number: GRM31CR60J107ME39L; Case/Package: 1206; Category: Cap
footprint CAPC3216X190X55ML30T25 (Chip Capacitor, 2-Leads, Body 3.5x1.9mm, IPC Low Density)
footprint CAPC3216X190X55NL30T25 (Chip Capacitor, 2-Leads, Body 3.5x1.9mm, IPC Medium Density)
footprint CAPC3216X190X55LL30T25 (Chip Capacitor, 2-Leads, Body 3.5x1.9mm, IPC High Density)
pins: 1, 2

## CMP-1676-00001-5
designator X?, comment 22-28-4033
Male Header, Pitch 2.54 mm, 1 x 3 Position, Height 8.38 mm, Tail Length 3.18 mm, RoHS, Bulk; Manufacturer: Molex; value: header 3 pin, 2.54mm; PackageDescription: Male Header, Pitch 2.54 mm, 1 x 3 Position, Height 8.38 mm, Tail Length 3.18 mm; Manufacturer Part Number: 22-28-4033; Case/Package: PLS-3; Category: Connector
footprint MOLX-22-28-4033_V (THD, 3-Leads, Body 7.62x2.49mm, Pitch 2.54mm)
pins: 1, 2, 3

## CMP-1685-00009-2
designator D?, comment LM358DR
IC OPAMP GP 2 CIRCUIT 8SOIC; Manufacturer: Texas Instruments; Case/Package: SOIC; Number of Pins: 8; Manufacturer Part Number: LM358DR; value: LM358DR; Category: IC
footprint FP-D0008A-MFG
footprint FP-D0008A-IPC_A
footprint FP-D0008A-IPC_B
footprint FP-D0008A-IPC_C
part A pins: 1 1OUT (out), 2 IN1- (hiz), 3 IN1+ (hiz), 4 V- (power), 8 V+ (power)
part B pins: 5 IN2+ (hiz), 6 IN2- (hiz), 7 2OUT (out)
part A text: -
part B text: -

## CMP-2000-05248-1
designator CD?, comment 502774-0891
Micro SD Memory Card Connector, 0.5 A, 10 V (DC), -25 to 85 degC, 8-Pin SMT, RoHS, Tape and Reel; Manufacturer: Molex; Manufacturer Part Number: 5027740891; value: 5027740891; Category: Connector; Case/Package: Micro SD (molex 5027740891 )
footprint MOLX-502774-0891_V (SMD, 14-Leads, Body 15x14.3mm, Pitch 1.1mm)
pins: 1 DAT2, 2 CD/DAT3, 3 CMD, 4 VDD, 5 CLK, 6 VSS, 7 DAT0, 8 DAT1, 9 DETECT, 10 SWITCH, 11 SHLD, 12 SHLD, 13 SHLD, 14 SHLD
text: CD/; DAT3; SD CARD; DET; SW

## CMP-2000-05610-1
designator X?, comment 47589-0001
Right Angle Female Type AB Micro USB Connector, 30 V, 1.8 A, -30 to 85 degC, RoHS, Tape and Reel; Manufacturer: Molex; Manufacturer Part Number: 47589-0001; value: 47589-0001; Case/Package: Micro USB  (molex 47589-0001); Category: Connector
footprint MOLX-47589-0001_V (SMD, 5-Leads, Body 7.5x5.6mm, Pitch 0.65mm)
pins: 1 VBUS, 2 D-, 3 D+, 4 ID, 5 GND, 6 SHLD1, 7 SHLD2, 8 SHLD3, 9 SHLD4, 10 SHLD5, 11 SHLD6

## CMP-2000-05926-1
designator D?, comment BAT46
Small Signal Schottky Diode, 150 mA, 100 V, -65 to 125 degC, 2-Pin DO-35, RoHS, Tape and Reel; Manufacturer: STMicroelectronics; Manufacturer Part Number: BAT46; value: BAT46; Category: Diode
footprint STM-DO-35-2 (THD, 2-Leads, Dia 1.765 mm, Body Length 3.775 mm)
pins: 1 A, 2 K

## CMP-2000-06123-1
designator Q?, comment CSTCE12M0G55Z-R0  (value not drawn)
Ceramic Resonator, 12 MHz, +/- 0.5%, -40 to 125 degC, 3-Pin SMD, RoHS, Tape and Reel; Manufacturer: Murata; Capacitance: 33pF; Category: CrystalsandOscillators; Manufacturer Part Number: CSTCE12M0G55Z-R0; value: CSTCE12M0G55Z-R0
footprint MURA-CSTCE_G_V (SMD, 3-Leads, Body 3.2x1.3mm, Pitch 1.2mm)
pins: 1 X1, 2 GND (power), 3 X2

## CMP-2000-06794-1
designator X?, comment N2510-6002RB
Male Header, Pitch 2.54 mm, 2 x 5 Postion, Height 9.91 mm, Tail Length 2.84 mm, -55 to 105 degC, RoHS, Bulk; PartNumber: N2510; Manufacturer: 3M; Pitch: 2.54mm; value: 10-Pin Shrouded Header, 2.54mm; Manufacturer Part Number: N2510-6002RB; Case/Package: IDC-10; Category: Connector
footprint 3M-N2510-6002-10_V (Header, 10-Leads, Body 20.02x8.59mm, Pitch 2.54mm)
pins: 1, 1, 2, 2, 3, 3, 4, 4, 5, 5, 6, 6, 7, 7, 8, 8, 9, 9, 10, 10

## CMP-2001-03561-2
designator R?, comment Resistance: 51Ω  (hidden comment: RR1220Q-510-D)
51Ω ±0.5% 0.1W 1/10W Chip Resistor 0805 (2012 Metric) Thin Film; Manufacturer: Susumu; Case/Package: 0805; Number of Terminations: 2; Termination: SMD/SMT; Number of Pins: 2; Manufacturer Part Number: RR1220Q-510-D; value: 51Ω; Category: Res
footprint FP-RR1220-IPC_A
footprint FP-RR1220-IPC_C
footprint FP-RR1220-MFG
footprint FP-RR1220-IPC_B
pins: 1, 2

## CMP-2001-04496-2
designator R?, comment Resistance: 2.7KΩ  (hidden comment: AC0805FR-072K7L)
RES SMD 2.7K OHM 1% 1/8W 0805; Manufacturer: Yageo; Value: 2.7KΩ; Manufacturer Part Number: AC0805FR-072K7L; Category: Res; Case/Package: 0805
footprint FP-AC0805-MFG
footprint FP-AC0805-IPC_C
footprint FP-AC0805-IPC_B
footprint FP-AC0805-IPC_A
pins: 1, 2

## CMP-2007-03243-2
designator C?, comment Capacitance: 10uF  (hidden comment: C0805C106K8PACTU)
CAP CER 10UF 10V X5R 0805; Manufacturer: KEMET; Manufacturer Part Number: C0805C106K8PACTU; Value: 10uF; Category: Cap; Case/Package: 0805
footprint FP-C0805C-DG-MFG
footprint FP-C0805C-DG-IPC_C
footprint FP-C0805C-DG-IPC_B
footprint FP-C0805C-DG-IPC_A
pins: 1, 2

## CMP-2007-03346-2
designator C?, comment Capacitance: 1uF  (hidden comment: GCM21BR71E105KA56L)
Ceramic Capacitor for Automotive 1uF ±10% 25VDC X7R 0805 Embossed T/R; Manufacturer: Murata; Termination: SMD/SMT; Case/Package: 0805; Manufacturer Part Number: GCM21BR71E105KA56L; value: 1uF; Category: Cap
footprint FP-GCM21B-0_15-MFG
footprint FP-GCM21B-0_15-IPC_A
footprint FP-GCM21B-0_15-IPC_B
footprint FP-GCM21B-0_15-IPC_C
pins: 1, 2

## CMP-2100-03606-3
designator C?, comment Capacitance: 100 nF  (hidden comment: CC0805KRX7R9BB104)
CAP CER 0.1UF 50V X7R 0805; Manufacturer: Yageo; Value: 100 nF; Manufacturer Part Number: CC0805KRX7R9BB104; Category: Cap; Case/Package: 0805
footprint FP-CC0805-0_85-MFG
footprint FP-CC0805-0_85-IPC_C
footprint FP-CC0805-0_85-IPC_B
footprint FP-CC0805-0_85-IPC_A
pins: 1, 2

## CMP-2100-03689-1
designator C?, comment Capacitance: 22uF  (hidden comment: TAJB226K016RNJ)
Standard Tantalum, 22 uF, +/- 10%, 16 V, -55 to 125 degC, 2-Pin SMD (1210), RoHS, Tape and Reel; Manufacturer: Kyocera AVX; value: 22uF; Number of Pins: 2; Termination: SMD/SMT; Case/Package: 1210; Manufacturer Part Number: TAJB226K016RNJ; Category: Cap
footprint AVX-TAJ-B-2_M (Molded Capacitor, 2-Leads, Body 3.7x3mm, IPC Low Density)
footprint AVX-TAJ-B-2_N (Molded Capacitor, 2-Leads, Body 3.7x3mm, IPC Medium Density)
footprint AVX-TAJ-B-2_L (Molded Capacitor, 2-Leads, Body 3.7x3mm, IPC High Density)
pins: 1, 2

## CMP-02407-004529-1
designator R?, comment Resistance: 1kR  (hidden comment: CRCW08051K00FKEAHP)
RES Thick Film, 1kΩ, 1%, 0.5W, 100ppm/°C, 0805; Manufacturer: Vishay Dale; Case/Package: 0805; Number of Pins: 2; Termination: Solder; Manufacturer Part Number: CRCW08051K00FKEAHP; value: 1kΩ; Category: Res
footprint FP-CRCW0805-HPe3-IPC_A
footprint FP-CRCW0805-HPe3-IPC_B
footprint FP-CRCW0805-HPe3-MFG
footprint FP-CRCW0805-HPe3-IPC_C
pins: 1, 2

## CMP-02407-005666-1
designator R?, comment Resistance: 530R  (hidden comment: TNPW0805530RBETA)
RES Thick Film, 560Ω, 1%, 0.5W, 100ppm/°C, 0805; Manufacturer: Vishay; Manufacturer Part Number: CRCW0805560RFKEAHP; value: 530Ω; Case/Package: 0805; Termination: Wraparound; Number of Terminations: 2; Category: Res
footprint FP-CRCW0805-HPe3-IPC_B
footprint FP-CRCW0805-HPe3-IPC_A
footprint FP-CRCW0805-HPe3-MFG
footprint FP-CRCW0805-HPe3-IPC_C
pins: 1, 2

## CMP-02407-008731-1
designator R?, comment Resistance: 47kR  (hidden comment: CRCW080547K0FKEAHP)
RES Thick Film, 47kΩ, 1%, 0.5W, 100ppm/°C, 0805; Manufacturer: Vishay; Number of Terminations: 2; Termination: SMD/SMT; Case/Package: 0805; Manufacturer Part Number: CRCW080547K0FKEAHP; value: 47kΩ; Category: Res
footprint FP-CRCW0805-HPe3-IPC_A
footprint FP-CRCW0805-HPe3-IPC_C
footprint FP-CRCW0805-HPe3-MFG
footprint FP-CRCW0805-HPe3-IPC_B
pins: 1, 2

## CMP-02540-000025-1
designator VD?, comment LS4148-GS08
DIODE GEN PURP 75V 150MA SOD80; Manufacturer: Vishay; Capacitance: 4pF; Value: LS4148; Category: Diode; Manufacturer Part Number: LS4148-GS08; Case/Package: SOD80
footprint FP-6_560-5006_01-4-MFG
pins: 1 C, 2 A

## CMP-03211-000130-1
designator R?, comment Resistance: 10KΩ  (hidden comment: RN73C2A10KBTDF)
SMD Chip Resistor, Thin Film, 10KΩ, 100 V, 0805 [2012 Metric], 100 mW, 0.1%, RN73 Series; Manufacturer: TE Connectivity; Value: 10KΩ; Category: Res; Manufacturer Part Number: RN73C2A10KBTDF; Case/Package: 0805
footprint FP-RN732A-MFG
footprint FP-RN732A-IPC_C
footprint FP-RN732A-IPC_B
footprint FP-RN732A-IPC_A
pins: 1, 2

## CMP-03211-002331-1
designator R?, comment Resistance: 150Ω  (hidden comment: RN73C2A150RBTDF)
SMD Chip Resistor, Thin Film, 150Ω, 100 V, 0805 [2012 Metric], 100 mW, 0.1%, RN73 Series; Manufacturer: TE Connectivity; Value: 150Ω; Manufacturer Part Number: RN73C2A150RBTDF; Category: Res; Case/Package: 0805
footprint FP-RN732A-MFG
footprint FP-RN732A-IPC_C
footprint FP-RN732A-IPC_B
footprint FP-RN732A-IPC_A
pins: 1, 2

## CMP-03211-006560-1
designator R?, comment Resistance: 75Ω  (hidden comment: RN73C2A75RBTDF)
SMD Chip Resistor, Thin Film, 75Ω, 100 V, 0805 [2012 Metric], 100 mW, 0.1%, RN73 Series; Manufacturer: TE Connectivity; Value: 75Ω; Category: Res; Manufacturer Part Number: RN73C2A75RBTDF; Case/Package: 0805
footprint FP-RN732A-MFG
footprint FP-RN732A-IPC_C
footprint FP-RN732A-IPC_B
footprint FP-RN732A-IPC_A
pins: 1, 2

## CMP-03211-008328-1
designator R?, comment Resistance: 15KΩ  (hidden comment: RN73C2A15KBTDF)
SMD Chip Resistor, Thin Film, 15KΩ, 100 V, 0805 [2012 Metric], 100 mW, 0.1%, RN73 Series; Manufacturer: TE Connectivity; Manufacturer Part Number: RN73C2A15KBTDF; Category: Res; Value: 15KΩ; Case/Package: 0805
footprint FP-RN732A-MFG
footprint FP-RN732A-IPC_C
footprint FP-RN732A-IPC_B
footprint FP-RN732A-IPC_A
pins: 1, 2

## CMP-03369-000064-1
designator J?, comment 87227-8
CONN HEADER VERT 16POS 2.54MM; Manufacturer: TE Connectivity; value: HEADER 16POS 2.54MM 2ROW; Pitch: 2.54mm; Manufacturer Part Number: 87227-8; Category: Connector; Case/Package: PLD-16
footprint FP-87227-8-MFG
part A pins: 1, 3, 5, 7, 9, 11, 13, 15
part B pins: 2, 4, 6, 8, 10, 12, 14, 16

## CMP-03412-000082-1
designator R?, comment value 680Ω  (hidden comment: RT0805FRE07680RL)
RES SMD 680 OHM 1% 1/8W 0805; Manufacturer: Yageo; Category: Res; Manufacturer Part Number: RT0805FRE07680RL; Resistance: 680Ω; Case/Package: 0805
footprint FP-RT0805-MFG
footprint FP-RT0805-IPC_C
footprint FP-RT0805-IPC_B
footprint FP-RT0805-IPC_A
pins: 1, 2

## CMP-03412-025935-1
designator R?, comment Resistance: 3.3KΩ  (hidden comment: RT0805FRE073K3L)
RES SMD 3.3K OHM 1% 1/8W 0805; Manufacturer: Yageo; Value: 3.3KΩ; Manufacturer Part Number: RT0805FRE073K3L; Category: Res; Case/Package: 0805
footprint FP-RT0805-MFG
footprint FP-RT0805-IPC_C
footprint FP-RT0805-IPC_B
footprint FP-RT0805-IPC_A
pins: 1, 2

## CMP-05379-000002-1
designator X?, comment D2510-6002-AR
CONN HEADER VERT 10POS 2.54MM; Manufacturer: 3M; value: Shrouded  HEADER 10POS 2.54MM; Category: Connector; Manufacturer Part Number: D2510-6002-AR; Pitch: 2.54mm; Case/Package: IDC-10
footprint FP-D2510-6002-AR-MFG
part A pins: 1, 3, 5, 7, 9
part B pins: 2, 4, 6, 8, 10

## CMP-07162-000010-1
designator VD?, comment BAT54C
DIODE ARRAY SCHOTTKY 30V SOT23-3; Manufacturer: ON Semiconductor / Fairchild; Capacitance: 10pF; Category: Diode; Manufacturer Part Number: BAT54C; Value: BAT54C; Case/Package: SOT-23
footprint FP-MA03D-MFG
footprint FP-MA03D-IPC_C
footprint FP-MA03D-IPC_B
footprint FP-MA03D-IPC_A
pins: 1 1 ANODE, 2 2 ANODE, 3 COMMON CATHODE

## CMP-07173-000101-1
designator Q?, comment BSS138
MOSFET N-CH 50V 220MA SOT-23; Manufacturer: ON Semiconductor / Fairchild; Number of Pins: 3; Case/Package: SOT-23; Termination: SMD/SMT; Manufacturer Part Number: BSS138; value: BSS138; Category: Transistor
footprint FP-318-08-IPC_B
footprint FP-318-08-MFG
footprint FP-318-08-IPC_A
footprint FP-318-08-IPC_C
pins: 1 G, 2 S, 3 D

## CMP-07231-003724-1
designator R?, comment Resistance: 2.2kR  (hidden comment: CR0805-JW-222ELF)
Thick Film Chip Resistors 0805 2.2kΩ 0.125W 5% 200ppm/°C; Manufacturer: Bourns; Number of Terminations: 2; Termination: SMD/SMT; Case/Package: 0805; Manufacturer Part Number: CR0805-JW-222ELF; value: 2.2kΩ; Category: Res
footprint FP-CR0805-IPC_B
footprint FP-CR0805-IPC_C
footprint FP-CR0805-IPC_A
footprint FP-CR0805-MFG
pins: 1, 2

## CMP-07231-003873-1
designator R?, comment Resistance: 10kR  (hidden comment: CR0805-JW-103ELF)
Thick Film Chip Resistors 0805 10kΩ 0.125W 5% 200ppm/°C; Manufacturer: Bourns; Number of Terminations: 2; Termination: SMD/SMT; Number of Pins: 2; Case/Package: 0805; Manufacturer Part Number: CR0805-JW-103ELF; Category: Res; value: 10kΩ
footprint FP-CR0805-IPC_B
footprint FP-CR0805-MFG
footprint FP-CR0805-IPC_A
footprint FP-CR0805-IPC_C
pins: 1, 2

## CMP-07231-004348-1
designator R?, comment Resistance: 0mR  (hidden comment: CR0805-J/-000ELF)
Thick Film Chip Resistors 0805 0Ω 0.125W 5%; Manufacturer: Bourns; Case/Package: 0805; Number of Pins: 2; Termination: SMD/SMT; Manufacturer Part Number: CR0805-J/-000ELF; value: 0Ω; Category: Res
footprint FP-CR0805-IPC_C
footprint FP-CR0805-MFG
footprint FP-CR0805-IPC_A
footprint FP-CR0805-IPC_B
pins: 1, 2

## CMP-07231-004713-1
designator R?, comment Resistance: 4.7kR  (hidden comment: CR0805-JW-472ELF)
Thick Film Chip Resistors 0805 4.7kΩ 0.125W 5% 200ppm/°C; Manufacturer: Bourns; Case/Package: 0805; Number of Terminations: 2; Termination: SMD/SMT; Manufacturer Part Number: CR0805-JW-472ELF; value: 4.7kΩ; Category: Res
footprint FP-CR0805-MFG
footprint FP-CR0805-IPC_C
footprint FP-CR0805-IPC_B
footprint FP-CR0805-IPC_A
pins: 1, 2

## CMP-08839-004390-1
designator R?, comment Resistance: 1kR  (hidden comment: MCR10ERTJ102)
Thick Film Chip Resistor, 0805, 1kΩ, 5%, 200ppm/°C, 0.125W, 150V; Manufacturer: Rohm; Case/Package: 0805; Number of Terminations: 2; Manufacturer Part Number: MCR10ERTJ102; value: 1kΩ; Category: Res
footprint FP-MCR10-MFG
footprint FP-MCR10-IPC_A
footprint FP-MCR10-IPC_C
footprint FP-MCR10-IPC_B
pins: 1, 2

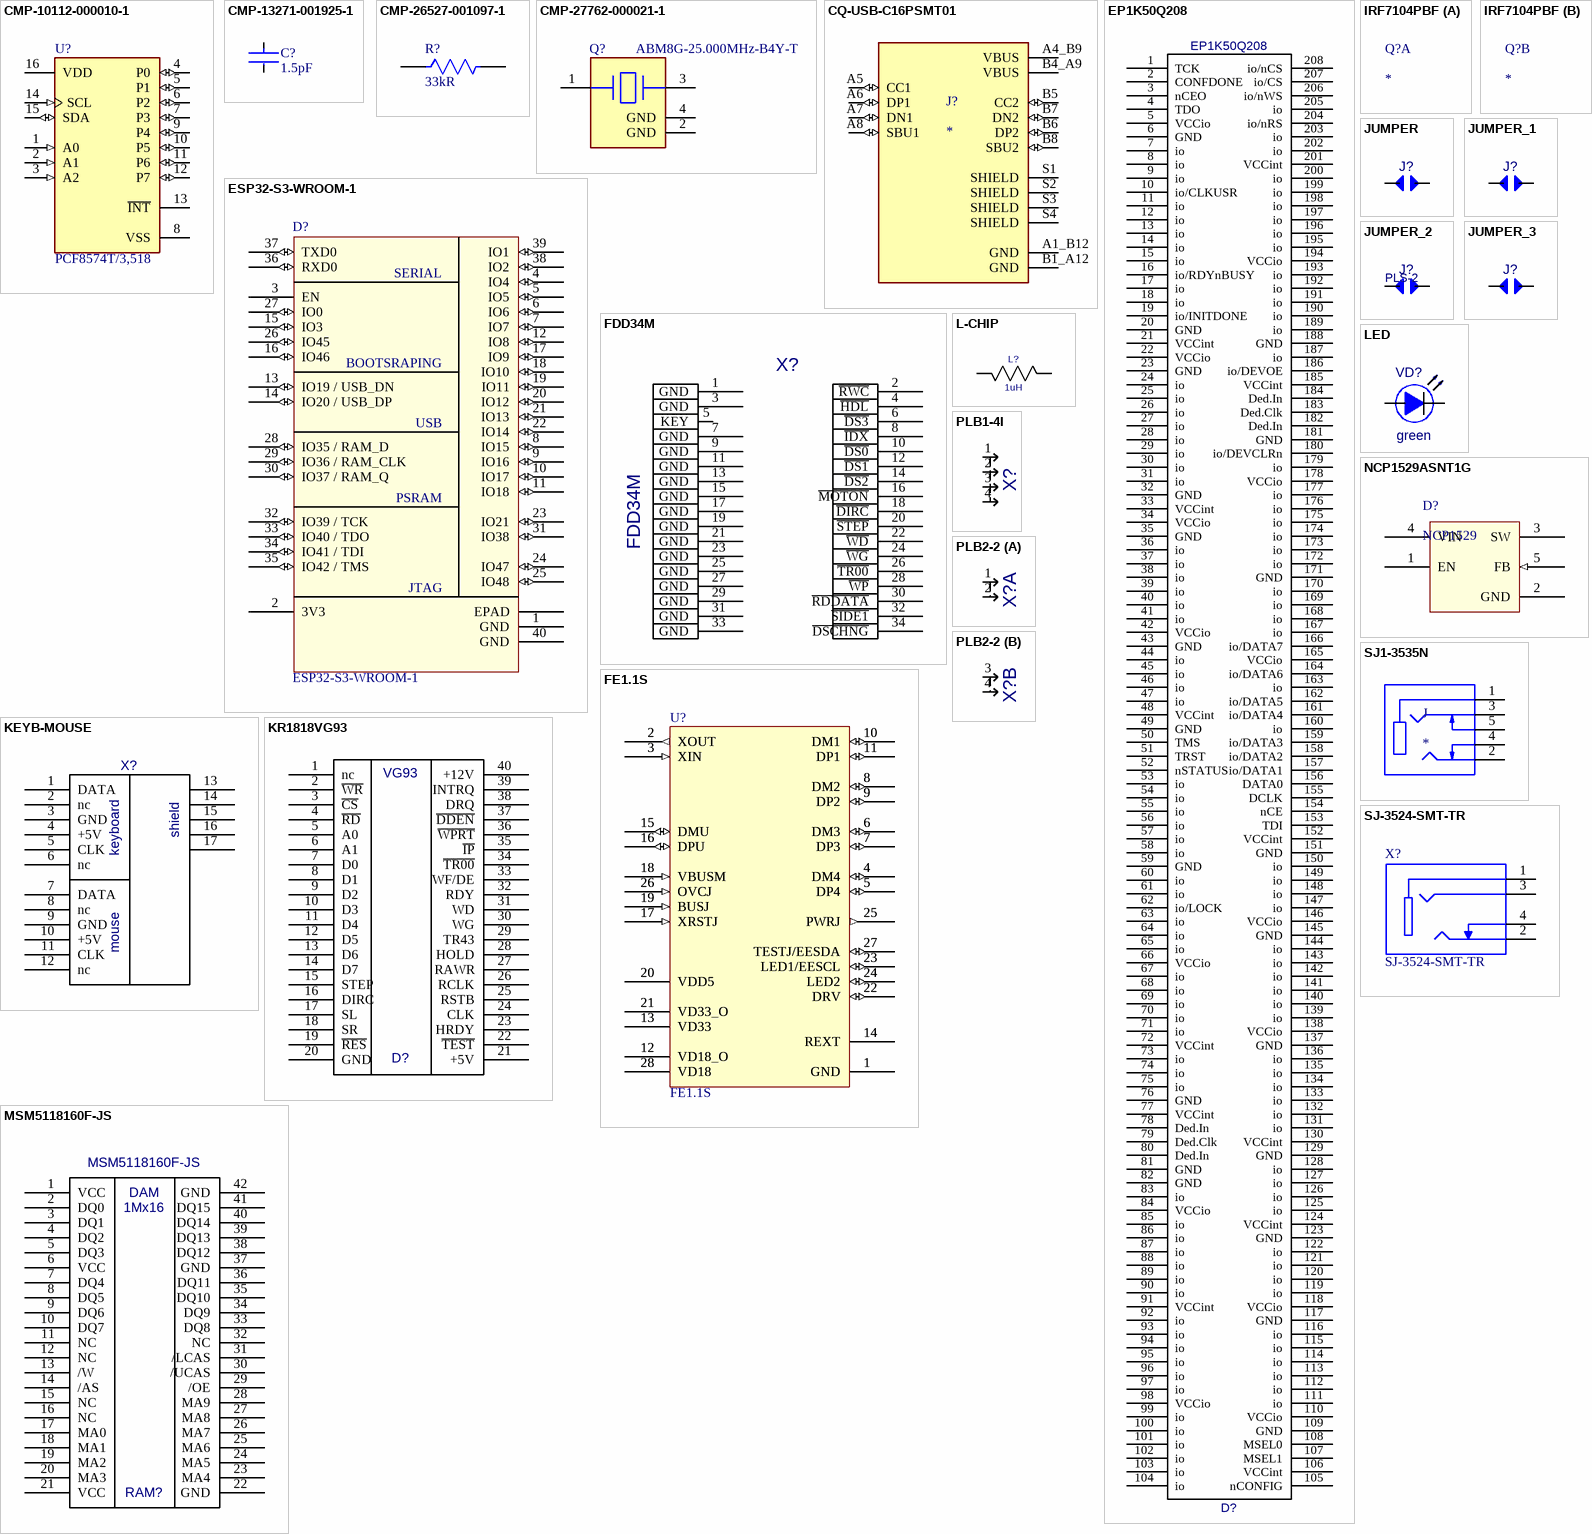
[diagram p2: symbols CMP-10112-000010-1 to SJ-3524-SMT-TR]

## CMP-10112-000010-1
designator U?, comment PCF8574T/3,518
IC I/O EXPANDER I2C 8B 16SOIC; Manufacturer: NXP Semiconductors; Manufacturer Part Number: PCF8574T/3,518; Category: IC; value: PCF8574T/3,518; Case/Package: SOT162-1
footprint FP-SOT162-1-MFG
footprint FP-SOT162-1-IPC_C
footprint FP-SOT162-1-IPC_B
footprint FP-SOT162-1-IPC_A
pins: 1 A0 (in), 2 A1 (in), 3 A2 (in), 4 P0 (io), 5 P1 (io), 6 P2 (io), 7 P3 (io), 8 VSS (power), 9 P4 (io), 10 P5 (io), 11 P6 (io), 12 P7 (io), 13 ~{INT} (oc), 14 SCL (in), 15 SDA (io), 16 VDD (power)

## CMP-13271-001925-1
designator C?, comment Capacitance: 1.5pF  (hidden comment: CL21C1R5CBANNNC)
CL21 Series 0805 1.5pF 50V ±0.25pF Tolerance C0G Multilayer Ceramic Chip Capacitor; Manufacturer: Samsung; Case/Package: 0805; Manufacturer Part Number: CL21C1R5CBANNNC; value: 1.5pF; Category: Cap
footprint FP-CL21-IPC_C
footprint FP-CL21-IPC_B
footprint FP-CL21-IPC_A
pins: 1, 2

## CMP-26527-001097-1
designator R?, comment Resistance: 33kR  (hidden comment: RMCF0805JT33K0)
33kΩ ±5% 0.125W 0805 Thick Film Chip Resistor AEC-Q200 compliant; Manufacturer: Stackpole Electronics; Number of Terminations: 2; Case/Package: 0805; Manufacturer Part Number: RMCF0805JT33K0; value: 33kΩ; Category: Res
footprint FP-RMCF0805-IPC_B
footprint FP-RMCF0805-MFG
footprint FP-RMCF0805-IPC_C
footprint FP-RMCF0805-IPC_A
pins: 1, 2

## CMP-27762-000021-1
designator Q?, comment ABM8G-25.000MHz-B4Y-T
CRYSTAL 25.0000MHZ 10PF SMD; Manufacturer: Abracon; Termination: SMD/SMT; Case/Package: SMD/SMT; Number of Pins: 4; Manufacturer Part Number: ABM8G-25.000MHZ-B4Y-T; value: ABM8G-25.000MHZ-B4Y-T; Category: CrystalsandOscillators
footprint FP-ABM8G-MFG
pins: 1, 2 GND (power), 3, 4 GND (power)

## CQ-USB-C16PSMT01
designator J?
C Type USB Type-C Female Plug 16 Pin Connector Power Charger Jack Port; MP: CQ-USB-C16PSMT01; MF: Shenzen Chuangqin Technology; Price: None; Package: Package; Availability: Unavailable; SnapEDA_Link: https://www.snapeda.com/parts/CQ-USB-C16PSMT01/Shenzen%20Chuangqin%20Technology/view-part/5798994/?ref=snap; Check_prices: https://www.snapeda.com/parts/CQ-USB-C16PSMT01/Shenzen%20Chuangqin%20Technology/view-part/5798994/?ref=eda; Value: *
footprint SHENZHEN-CHUANGQIN-TECHNOLOGY_CQ-USB-C16PSMT01
pins: A1_B12 GND (power), A4_B9 VBUS (power), A5 CC1 (io), A6 DP1 (io), A7 DN1 (io), A8 SBU1 (io), B1_A12 GND (power), B4_A9 VBUS (power), B5 CC2 (io), B6 DP2 (io), B7 DN2 (io), B8 SBU2 (io), S1 SHIELD, S2 SHIELD, S3 SHIELD, S4 SHIELD

## EP1K50Q208
designator D?
Value: EP1K50Q208; Case/Package: PQFP-208; Category: IC
footprint PQFP208X5
pins: 1 TCK, 2 CONFDONE, 3 nCEO, 4 TDO, 5 VCCio, 6 GND, 7 io, 8 io, 9 io, 10 io/CLKUSR, 11 io, 12 io, 13 io, 14 io, 15 io, 16 io/RDYnBUSY, 17 io, 18 io, 19 io/INITDONE, 20 GND, 21 VCCint, 22 VCCio, 23 GND, 24 io, 25 io, 26 io, 27 io, 28 io, 29 io, 30 io, 31 io, 32 GND, 33 VCCint, 34 VCCio, 35 GND, 36 io, 37 io, 38 io, 39 io, 40 io, 41 io, 42 VCCio, 43 GND, 44 io, 45 io, 46 io, 47 io, 48 VCCint, 49 GND, 50 TMS, 51 TRST, 52 nSTATUS, 53 io, 54 io, 55 io, 56 io, 57 io, 58 io, 59 GND, 60 io, 61 io, 62 io/LOCK, 63 io, 64 io, 65 io, 66 VCCio, 67 io, 68 io, 69 io, 70 io, 71 io, 72 VCCint, 73 io, 74 io, 75 io, 76 GND, 77 VCCint, 78 Ded.In, 79 Ded.Clk, 80 Ded.In, 81 GND, 82 GND, 83 io, 84 VCCio, 85 io, 86 io, 87 io, 88 io, 89 io, 90 io, 91 VCCint, 92 io, 93 io, 94 io, 95 io, 96 io, 97 io, 98 VCCio, 99 io, 100 io, 101 io, 102 io, 103 io, 104 io, 105 nCONFIG, 106 VCCint, 107 MSEL1, 108 MSEL0, 109 GND, 110 VCCio, 111 io, 112 io, 113 io, 114 io, 115 io, 116 io, 117 GND, 118 VCCio, 119 io, 120 io, 121 io, 122 io, 123 GND, 124 VCCint, 125 io, 126 io, 127 io, 128 io, 129 GND, 130 VCCint, 131 io, 132 io, 133 io, 134 io, 135 io, 136 io, 137 GND, 138 VCCio, 139 io, 140 io, 141 io, 142 io, 143 io, 144 io, 145 GND, 146 VCCio, 147 io, 148 io, 149 io, 150 io, 151 GND, 152 VCCint, 153 TDI, 154 nCE, 155 DCLK, 156 DATA0, 157 io/DATA1, 158 io/DATA2, 159 io/DATA3, 160 io, 161 io/DATA4, 162 io/DATA5, 163 io, 164 io/DATA6, 165 VCCio, 166 io/DATA7, 167 io, 168 io, 169 io, 170 io, 171 GND, 172 io, 173 io, 174 io, 175 io, 176 io, 177 io, 178 VCCio, 179 io, 180 io/DEVCLRn, 181 GND, 182 Ded.In, 183 Ded.Clk, 184 Ded.In, 185 VCCint, 186 io/DEVOE, 187 io, 188 GND, 189 io, 190 io, 191 io, 192 io, 193 io, 194 VCCio, 195 io, 196 io, 197 io, 198 io, 199 io, 200 io, 201 VCCint, 202 io, 203 io, 204 io/nRS, 205 io, 206 io/nWS, 207 io/CS, 208 io/nCS

## ESP32-S3-WROOM-1
designator D?
2.4 GHz Wi­Fi (802.11 b/g/n) and Bluetooth® 5 (LE) module / Built around ESP32­S3 series of SoCs, Xtensa® dual­core 32­bit LX7 microprocessor / Flash up to 16 MB, PSRAM up to 8 MB / 36 GPIOs, rich set of peripherals / Onboard PCB antenna or external antenna connector; value: ESP32-S3-WROOM-1; Case/Package: ESP32-S3; Category: IC
footprint ESP32S3WROOM1
pins: 1 GND (power), 2 3V3 (power) "Power supply", 3 EN (power) "High: on, enables the chip. Low: off, the chip powers off Note: Do not leave the EN pin floating", 4 IO4 (io) "RTC_GPIO4, GPIO4, TOUCH4, ADC1_CH3", 5 IO5 (io) "RTC_GPIO5, GPIO5, TOUCH5, ADC1_CH4", 6 IO6 (io) "RTC_GPIO6, GPIO6, TOUCH6, ADC1_CH5", 7 IO7 (io) "RTC_GPIO7, GPIO7, TOUCH7, ADC1_CH6", 8 IO15 (io) "RTC_GPIO15, GPIO15, U0RTS, ADC2_CH4, XTAL_32K_P", 9 IO16 (io) "RTC_GPIO16, GPIO16, U0CTS, ADC2_CH5, XTAL_32K_N", 10 IO17 (io) "RTC_GPIO17, GPIO17, U1TXD, ADC2_CH6", 11 IO18 (io) "RTC_GPIO18, GPIO18, U1RXD, ADC2_CH7, CLK_OUT3", 12 IO8 (io) "RTC_GPIO8, GPIO8, TOUCH8, ADC1_CH7, SUBSPICS1", 13 IO19 / USB_DN (io) "RTC_GPIO19, GPIO19, U1RTS, ADC2_CH8, CLK_OUT2, USB_D-", 14 IO20 / USB_DP (io) "RTC_GPIO20, GPIO20, U1CTS, ADC2_CH9, CLK_OUT1, USB_D+", 15 IO3 (io) "RTC_GPIO3, GPIO3, TOUCH3, ADC1_CH2", 16 IO46 (io) "GPIO46", 17 IO9 (io) "RTC_GPIO9, GPIO9, TOUCH9, ADC1_CH8, FSPIHD, SUBSPIHD", 18 IO10 (io) "RTC_GPIO10, GPIO10, TOUCH10, ADC1_CH9, FSPICS0, FSPIIO4, SUBSPICS0", 19 IO11 (io) "RTC_GPIO11, GPIO11, TOUCH11, ADC2_CH0, FSPID, FSPIIO5, SUBSPID", 20 IO12 (io) "RTC_GPIO12, GPIO12, TOUCH12, ADC2_CH1, FSPICLK, FSPIIO6, SUBSPICLK", 21 IO13 (io) "RTC_GPIO13, GPIO13, TOUCH13, ADC2_CH2, FSPIQ, FSPIIO7, SUBSPIQ", 22 IO14 (io) "RTC_GPIO14, GPIO14, TOUCH14, ADC2_CH3, FSPIWP, FSPIDQS, SUBSPIWP", 23 IO21 (io) "RTC_GPIO21, GPIO21", 24 IO47 (io) "SPICLK_P_DIFF,GPIO47, SUBSPICLK_P_DIFF", 25 IO48 (io) "SPICLK_N_DIFF,GPIO48, SUBSPICLK_N_DIFF", 26 IO45 (io) "GPIO45", 27 IO0 (io) "RTC_GPIO0, GPIO0", 28 IO35 / RAM_D (io) "SPIIO6, GPIO35, FSPID, SUBSPID", 29 IO36 / RAM_CLK (io) "SPIIO7, GPIO36, FSPICLK, SUBSPICLK", 30 IO37 / RAM_Q (io) "SPIDQS, GPIO37, FSPIQ, SUBSPIQ", 31 IO38 (io) "GPIO38, FSPIWP, SUBSPIWP", 32 IO39 / TCK (io) "MTCK, GPIO39, CLK_OUT3, SUBSPICS1", 33 IO40 / TDO (io) "MTDO, GPIO40, CLK_OUT2", 34 IO41 / TDI (io) "MTDI, GPIO41, CLK_OUT1", 35 IO42 / TMS (io) "MTMS, GPIO42", 36 RXD0 (io) "U0RXD, GPIO44, CLK_OUT2", 37 TXD0 (io) "U0TXD, GPIO43, CLK_OUT1", 38 IO2 (io) "RTC_GPIO2, GPIO2, TOUCH2, ADC1_CH1", 39 IO1 (io) "RTC_GPIO1, GPIO1, TOUCH1, ADC1_CH0", 40 GND (power), EPAD (power) "GND"
text: SERIAL; BOOTSRAPING; USB; PSRAM; JTAG

## FDD34M
designator X?
Value: Shrouded Header 34 pos 2.54mm 2 row; Case/Package: IDC-34; Category: Connector
footprint FDD34M
pins: 1 GND, 2 ~{RWC}, 3 GND, 4 ~{HDL}, 5 KEY, 6 ~{DS3}, 7 GND, 8 ~{IDX}, 9 GND, 10 ~{DS0}, 11 GND, 12 ~{DS1}, 13 GND, 14 ~{DS2}, 15 GND, 16 ~{MOTON}, 17 GND, 18 ~{DIRC}, 19 GND, 20 ~{STEP}, 21 GND, 22 ~{WD}, 23 GND, 24 ~{WG}, 25 GND, 26 ~{TR00}, 27 GND, 28 ~{WP}, 29 GND, 30 ~{RDDATA}, 31 GND, 32 ~{SIDE1}, 33 GND, 34 ~{DSCHNG}